# Altium footprint library L_1812_4532.pcblib: 1 footprints
Each footprint in its own frame and in the unit in brackets; x right, y up, seen from the top. Pads: shape width x height; smd on the part's side, far side on the other; paste and mask are expansions set on the pad; w line width, h text height; cw(c..) or ccw(c..) is an arc to the next point about the centre after c.
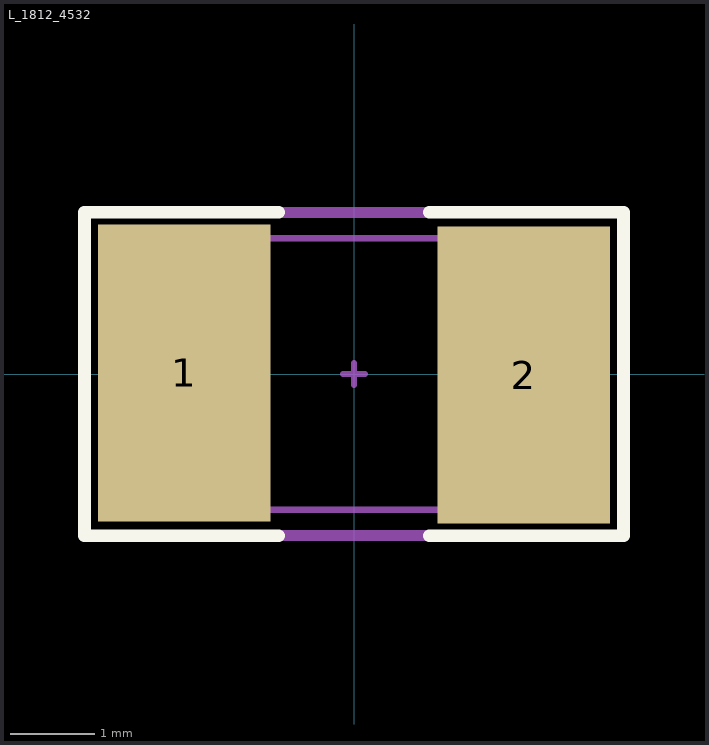
[diagram p0: the footprint, top view; thin cyan lines are the x and y axes]

## L_1812_4532 [mm]
pads (2):
  rect 2.032x3.5 smd: 1(-2,0.012) 2(2,-0.012)
Top Overlay:
  lines w0.15: -0.889,-1.905 -3.175,-1.905 -3.175,1.905 -0.889,1.905 ; 0.889,-1.905 3.175,-1.905 3.175,1.905 0.889,1.905
Mechanical 13:
  lines w0.076: -2.25,-1.6 -2.25,1.6 2.25,1.6 2.25,-1.6 -2.25,-1.6
Mechanical 15:
  lines w0.076: -0.127,0 0.127,0 ; 0,-0.127 0,0.127
  lines w0.127: -3.175,-1.905 -3.175,1.905 3.175,1.905 3.175,-1.905 -3.175,-1.905
Mechanical 17:
  text "'.Designator'" at -2.413,-0.508 h0.38
Mechanical 19:
  text "'.Comment'" at -2.413,-0.508 h0.38
3D body "User Library-Chip Inductor 1812.step": height 1.75, standoff 0, extent -2.25,-1.6 2.25,1.6